# Altium footprint library Conn_Harwin_S1751-46R_eec_MFG.PcbLib: 1 footprints
Each footprint in its own frame and in the unit in brackets; x right, y up, seen from the top. Pads: shape width x height; smd on the part's side, far side on the other; paste and mask are expansions set on the pad; w line width, h text height; cw(c..) or ccw(c..) is an arc to the next point about the centre after c.
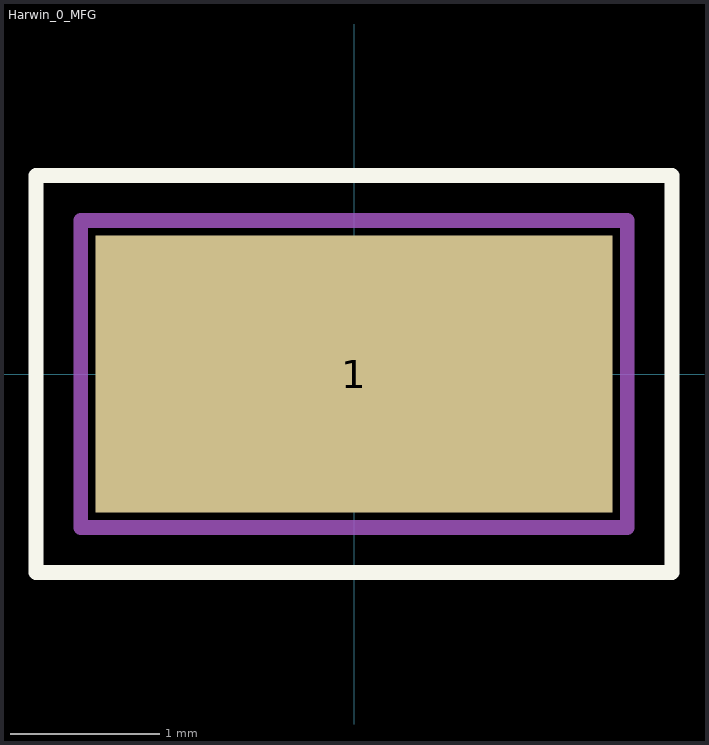
[diagram p0: the footprint, top view; thin cyan lines are the x and y axes]

## Harwin_0_MFG [mm]
pads (1):
  rect 3.45x1.85 smd paste+0 mask+0.05: 1(0,0)
Top Overlay:
  lines w0.1: -2.125,-1.325 2.125,-1.325 2.125,1.325 -2.125,1.325 -2.125,-1.325
Mechanical 11:
  text ".Designator" at 0,-0.001 h1
Mechanical 15:
  lines w0.1: -0.5,0 0.5,0 ; 0,-0.5 0,0.5 ; -1.825,-1.025 1.825,-1.025 1.825,1.025 -1.825,1.025 -1.825,-1.025
3D body "Conn_Harwin_S1751-46R_eec.STEP": height 0.25, standoff 0, extent -1.825,-1.025 1.825,1.025